# EAGLE library part PUMH13 (library OpenMotics)
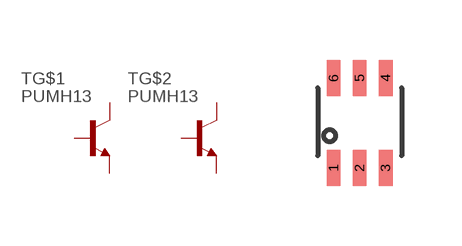
[diagram p1: symbol with the pads of SOT363; footprint SOT363]

Designator prefix T; gates G$1=DUAL_NPN G$2=DUAL_NPN

## PUMH13  [SOT363]
1  G$1:E  pas
2  G$1:B  pas
3  G$2:C  pas
4  G$2:E  pas
5  G$2:B  pas
6  G$1:C  pas

## Footprint SOT363 (pad centres in mm)
smd 0.35 x 0.9: 1 0,0; 2 0.65,0; 3 1.3,0; 4 1.3,2.25; 5 0.65,2.25; 6 0,2.25